# Altium schematic symbol library IndustrialSwitches.SchLib: 1 symbol
Pins are listed as number, name and electrical type; pins without a type are passive.

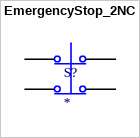
[diagram p0: symbol EmergencyStop_2NC]

## EmergencyStop_2NC
designator S?
EmergencyStop_2NC Symbol
pins: NC1-1 *, NC1-2 *, NC2-1 *, NC2-2 *